# Altium footprint library 1_to_5_Pin.PcbLib: 174 footprints (part 3 of 11)
Each footprint in its own frame and in the unit in brackets; x right, y up, seen from the top. Pads: shape width x height; smd on the part's side, far side on the other; paste and mask are expansions set on the pad; w line width, h text height; cw(c..) or ccw(c..) is an arc to the next point about the centre after c.
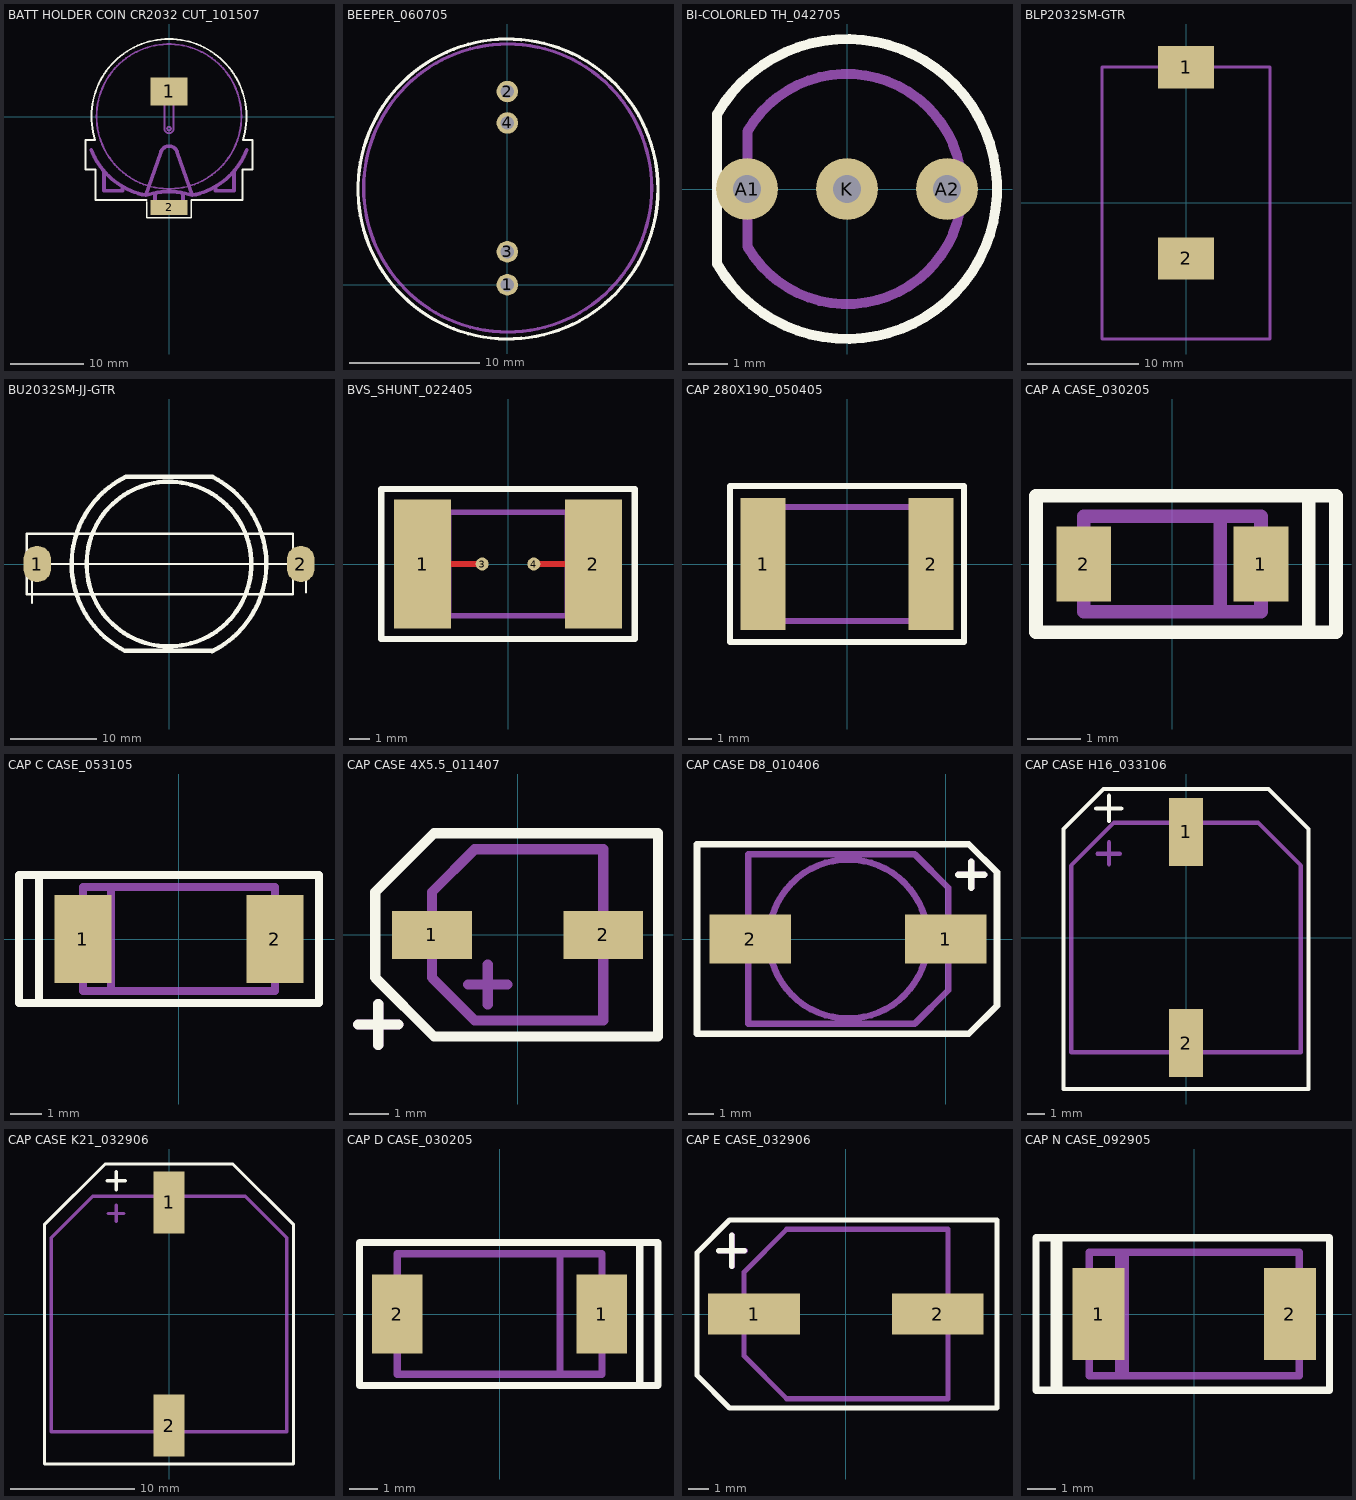
[diagram p2: the footprints below, top view; thin cyan lines are the x and y axes]

## BATT HOLDER COIN CR2032 CUT_101507 [mil] "SMT"
height 130
pads (2):
  rect 200x150 smd: 1(0,135)
  rect 200x80 smd: 2(0,-490)
Top Overlay:
  lines w10: -120,-460 -120,-545 0,-545 120,-545 120,-460 120,-450 395,-450 395,-285 450,-285 450,-126.17 397.91,-126.17 ccw(c0,0) 0,417.43 ccw(c0,0) -397.91,-126.17 -450,-126.17 -450,-285 -395,-285 -395,-450 -120,-450
Assembly Outline:
  circle w10: c-0.03,0 r390
  circle w10: c0,-65 r10
  lines w10: 75,110 75,195 ; 75,195 0,195 -50,195 -75,170 -75,150 -75,75 -45,75 -45,110 -25,110 -25,-65 ccw(c0,-65) 0,-90 ccw(c0,-65) 25,-65 25,110 45,110 45,75 75,75 75,195
  lines w20: -418.79,-179.54 ccw(c-48.32,-34.27) -125.06,-424.73 ; -350,-300 -350,-400 -250,-400 -250,-380 ; -75.03,-415 -75.03,-490 74.97,-490 74.97,-415 ; 250,-380 250,-400 350,-400 350,-300 ; 418.79,-179.54 cw(c48.32,-34.27) 125.06,-424.73 ; -125.06,-424.73 cw(c2,-801.07) 0,-403.87 cw(c-2,-801.07) 125.06,-424.73 ; -125.06,-424.73 -45.04,-195.84 cw(c0.06,-205.47) 44.97,-195 125.06,-424.73
Assembly Designator:
  text ".Designator" at -45,-140 h40
Assembly Comment:
  text ".Comment" at -180,230 h40

## BEEPER_060705 [mil] "TH"
height 200
pads (4):
  round 65 hole 40: 1(0,0) 2(0,585) 3(0,100) 4(0,490)
Top Overlay:
  circle w10: c2,290 r454.09
Assembly Outline:
  circle w10: c1,293 r436
Assembly Designator:
  text ".Designator" at -50,280 h40
Assembly Comment:
  text ".Comment" at -155,210 h40

## BI-COLORLED TH_042705 [mil] "TH"
height 450
pads (3):
  round 62 hole 28: A1(-100,0) A2(100,0) K(0,0)
Top Overlay:
  lines w10: -130,-75 -130,75 ; -129.9,-75 ccw(c0,0) -129.9,75
Assembly Outline:
  lines w10: -99.69,-57.55 ccw(c0,0) -99.69,57.55 -99.69,-57.55
Assembly Designator:
  text ".Designator" at -45,45 h40
Assembly Comment:
  text ".Comment" at -95,-175 h40

## BLP2032SM-GTR [mm] "SMT"
pads (2):
  rect 5.08x3.81 smd: 1(0,12.225) 2(0,-5)
Assembly Outline:
  lines w0.254: -7.55,-12.25 -7.55,12.25 7.55,12.25 7.55,-12.25 -7.55,-12.25
Assembly Designator:
  text ".Designator" at 8.5,-7 h1.02
Assembly Comment:
  text ".Comment" at 8.5,-7 h1.02

## BU2032SM-JJ-GTR [mm] "SMT"
pads (2):
  oval 3.2x4.2 smd: 1(-15.2,0) 2(15.2,0)
Top Overlay:
  circle w0.5: c0,0 r9.5
  lines w0.254: -15.8,-4.5 -15.8,0 0,0 15.8,0 15.8,-3.3 ; 5.02,10.08 5.1,10 ; -16.4,-3.5 -16.4,3.5 0,3.5 14.3,3.5 14.3,-3.5 -16.4,-3.5
  lines w0.5: 4.939,-10.08 ccw(c0,0) 5.1,10 ; 5,-10 -5.1,-10 cw(c0,0) -4.939,10.08 5.02,10.08

## BVS_SHUNT_022405 [mil] "SMT"
height 200
pads (4):
  rect 110x250 smd: 1(-165,0) 2(165,0)
  round 25 smd: 3(-50,0) 4(50,0)
Top Layer:
  lines w12: -165,0 -50,0 ; 50,0 165,0
Top Overlay:
  lines w12: -245,140 -245,145 ; -245,145 245,145 245,-145 -245,-145 -245,145
Assembly Outline:
  lines w10: -200,-100 -200,100 200,100 200,-100 -200,-100
  lines w12: -115,-100 -115,100 ; 115,-100 115,100
Assembly Designator:
  text ".Designator" at -40,-25 h40
Assembly Comment:
  text ".Comment" at -185,-165 h40

## CAP 280X190_050405 [mil] "SMT"
height 115
pads (2):
  rect 75x220 smd: 1(-140,0) 2(140,0)
Top Overlay:
  lines w10: -195,-130 -195,-105 -195,130 0,130 195,130 195,105 195,-130 0,-130 -195,-130
Assembly Outline:
  lines w10: 0,95 -140,95 ; -140,95 140,95 140,-95 -140,-95 -140,95
Assembly Designator:
  text ".Designator" at -35,-15 h40
Assembly Comment:
  text ".Comment" at -85,-180 h40

## CAP A CASE_030205 [mil] "SMT"
height 70
pads (2):
  rect 40x55 smd: 1(65,0) 2(-65,0)
Top Overlay:
  lines w10: 100,-50 120,-50 120,50 100,50 ; 100,-50 -35,-50 -100,-50 -100,50 100,50 ; 100,-50 100,50
Assembly Outline:
  lines w10: -65,0 -65,35 ; 0,-35 -65,-35 ; 35,-35 35,35 ; -65,-35 -65,35 ; -65,-35 65,-35 65,35 -65,35
Assembly Designator:
  text ".Designator" at -20,-20 h40
Assembly Comment:
  text ".Comment" at -85,45 h40

## CAP C CASE_053105 [mm] "SMT"
height 2.54
pads (2):
  rect 1.8x2.8 smd: 1(-3.048,0) 2(3.048,0)
Top Overlay:
  lines w0.254: -4.445,-2.032 4.445,-2.032 4.445,2.032 0.762,2.032 -4.445,2.032 ; -4.445,-2.032 -4.445,2.032 ; -4.445,-2.032 -5.08,-2.032 -5.08,2.032 -4.445,2.032
Assembly Outline:
  lines w0.254: -2.159,-1.651 -2.159,1.651 ; 0,1.651 3.048,1.651 ; 3.048,0 3.048,-1.651 ; 3.048,-1.651 3.048,1.651 ; 3.048,-1.651 -3.048,-1.651 -3.048,1.651 3.048,1.651
Assembly Designator:
  text ".Designator" at -1.143,-0.381 h1.02
Assembly Comment:
  text ".Comment" at -3.429,-3.175 h1.02

## CAP CASE 4X5.5_011407 [mm] "SMT"
height 5.5
pads (2):
  rect 2x1.2 smd: 1(-2.15,0) 2(2.15,0)
Top Overlay:
  lines w0.254: -4.008,-2.25 -2.992,-2.25 ; -3.5,-2.758 -3.5,-1.742 ; -3.575,-1.075 -2.1,-2.55 1.45,-2.55 3.525,-2.55 3.525,-0.675 3.525,0 3.525,0.675 3.525,2.55 1.45,2.55 -2.1,2.55 -3.575,1.075 -3.575,0 -3.575,-1.075
Assembly Outline:
  lines w0.254: -1.25,-1.25 -0.25,-1.25 ; -0.75,-1.75 -0.75,-0.75 ; 0,-2.15 2.15,-2.15 ; 2.15,1.35 2.15,2.15 ; -4.008,-2.25 -2.992,-2.25 ; -4.008,-2.25 -2.992,-2.25 ; -4.008,-2.25 -2.992,-2.25 ; -3.5,-2.758 -3.5,-1.742 ; -3.5,-2.758 -3.5,-1.742 ; -3.5,-2.758 -3.5,-1.742 ; 2.15,-2.15 2.15,2.15 ; 2.15,-2.15 -1.075,-2.15 -2.15,-1.075 -2.15,1.075 -1.075,2.15 2.15,2.15
Assembly Designator:
  text ".Designator" at -0.5,-0.5 h1.02
Assembly Comment:
  text ".Comment" at -4,-4 h1.02

## CAP CASE D8_010406 [mil] "SMT"
height 300
pads (2):
  rect 125x75 smd: 1(0,0) 2(-300,0)
Top Overlay:
  lines w10: 19.05,98.42 59.05,98.42 ; 39.05,78.42 39.05,118.42 ; -381.89,-145.67 -149.61,-145.67 35.43,-145.67 78.74,-102.36 78.74,0 78.74,102.36 35.43,145.67 -149.61,145.67 -381.89,145.67 -381.89,0 -381.89,-145.67
Assembly Outline:
  circle w10: c-149.61,0 r122.05
  lines w10: -303.15,0 -303.15,129.92 ; -149.61,-129.92 -303.15,-129.92 ; -303.15,-129.92 -303.15,129.92 ; -303.15,-129.92 -78.74,-129.92 -47.24,-129.92 3.94,-78.74 3.94,78.74 -47.24,129.92 -78.74,129.92 -303.15,129.92 ; 19.05,98.42 59.05,98.42 ; 19.05,98.42 59.05,98.42 ; 19.05,98.42 59.05,98.42 ; 39.05,78.42 39.05,118.42 ; 39.05,78.42 39.05,118.42 ; 39.05,78.42 39.05,118.42
Assembly Designator:
  text ".Designator" at -187.01,-19.68 h40
Assembly Comment:
  text ".Comment" at -344.49,-196.85 h40

## CAP CASE H16_033106 [mm] "SMT"
height 16
pads (2):
  rect 2x4 smd: 1(0,6.2) 2(0,-6.2)
Top Overlay:
  lines w0.254: -5.275,7.575 -3.8,7.575 ; -4.525,6.85 -4.525,8.325 ; -7.2,-8.9 -7.2,0 -7.2,6.375 -4.85,8.725 0,8.725 4.85,8.725 7.2,6.375 7.2,0 7.2,-8.9 -7.2,-8.9
Assembly Outline:
  lines w0.254: -5.2,4.925 -3.9,4.925 ; -4.525,4.3 -4.525,5.6 ; -0.45,-6.75 -0.45,-7.35 0,-7.35 0.45,-7.35 0.45,-6.75 ; -0.45,6.75 -0.45,7.35 0,7.35 0.45,7.35 0.45,6.75 ; 0,-6.75 -6.75,-6.75 ; -6.75,-6.75 6.75,-6.75 6.75,2.45 6.75,4.225 4.225,6.75 -4.225,6.75 -6.75,4.225 -6.75,2.45 -6.75,-6.75
Assembly Designator:
  text ".Designator" at -1.7,-0.15 h1.02
Assembly Comment:
  text ".Comment" at -2.525,-2.175 h1.02

## CAP CASE K21_032906 [mm] "SMT"
height 21
pads (2):
  rect 2.5x5 smd: 1(0,9) 2(0,-9)
Top Overlay:
  lines w0.254: -5,10.75 -3.525,10.75 ; -4.25,10.025 -4.25,11.5 ; -10.05,-12.1 -10.05,0 -10.05,7.2 -5.15,12.1 0,12.1 5.15,12.1 10.05,7.2 10.05,0 10.05,-12.1 0,-12.1 -10.05,-12.1
Assembly Outline:
  lines w0.254: -4.925,8.1 -3.625,8.1 ; -4.25,7.475 -4.25,8.775 ; -0.6,-9.5 -0.6,-10.5 0.6,-10.5 ; -0.6,9.5 -0.6,10.5 0.6,10.5 ; 0,-10.5 0.6,-10.5 ; 0,10.5 0.6,10.5 ; 0.6,-9.5 0.6,-10.5 ; 0.6,9.5 0.6,10.5 ; -9.5,-9.5 9.5,-9.5 9.5,0 9.5,6.15 6.15,9.5 -6.15,9.5 -9.5,6.15 -9.5,4.45 -9.5,-9.5
Assembly Designator:
  text ".Designator" at -1.1,-0.275 h1.02
Assembly Comment:
  text ".Comment" at -4,-1.95 h1.02

## CAP D CASE_030205 [mm] "SMT"
height 3.048
pads (2):
  rect 1.8x2.8 smd: 1(3.65,0) 2(-3.65,0)
Top Overlay:
  lines w0.254: 5,-2.55 5,2.55 ; 5,-2.55 -5,-2.55 -5,0 -5,2.55 5,2.55 ; 5,-2.55 5.65,-2.55 5.65,2.55 5,2.55
Assembly Outline:
  lines w0.254: 0,-2.15 -3.65,-2.15 ; 2.15,2.15 2.15,-2.15 3.65,-2.15 ; 3.65,0 3.65,2.15 ; -3.65,-2.15 3.65,-2.15 ; -3.65,-2.15 -3.65,2.15 3.65,2.15 ; 3.65,-2.15 3.65,2.15
Assembly Designator:
  text ".Designator" at -1.651,-0.381 h1.02
Assembly Comment:
  text ".Comment" at -3.937,2.413 h1.02

## CAP E CASE_032906 [mm] "SMT"
height 6.2
pads (2):
  rect 4.5x2 smd: 1(-4.5,0) 2(4.5,0)
Top Overlay:
  lines w0.254: -6.235,3.1 -5.6,3.1 -4.965,3.1 ; -5.6,2.338 -5.6,3.862 ; -7.3,-3 -5.7,-4.6 7.4,-4.6 7.4,4.6 1.5,4.6 -5.7,4.6 -7.3,3 -7.3,0 -7.3,-3
Assembly Outline:
  lines w0.254: -6.2,3.1 -5.565,3.1 -4.93,3.1 ; -5.565,2.338 -5.565,3.862 ; 0,-4.15 5,-4.15 ; 5,0 5,4.15 ; 5,-4.15 5,4.15 ; 5,-4.15 -2.9,-4.15 -5,-2.05 -5,2.05 -2.9,4.15 5,4.15
Assembly Designator:
  text ".Designator" at -0.901,-0.481 h1.02
Assembly Comment:
  text ".Comment" at -4.75,-5.975 h1.02

## CAP N CASE_092905 [mm] "SMT"
height 2.8
pads (2):
  rect 1.8x3.2 smd: 1(-3.325,0) 2(3.325,0)
Top Overlay:
  lines w0.254: -4.875,2.65 -4.875,-2.65 -4.7,-2.65 ; -4.7,-2.65 -0.425,-2.65 4.7,-2.65 4.7,0.775 4.7,2.65 0.425,2.65 -4.7,2.65 ; -4.7,-2.65 -4.7,-0.775 -4.7,2.65 ; -4.7,-2.65 -5.5,-2.65 -5.5,2.65 -4.7,2.65
Assembly Outline:
  lines w0.254: -3.65,0 -3.65,2.15 ; -2.275,2.15 -2.4,2.15 -2.4,-2.15 -2.625,-2.15 -2.625,2.15 -3.65,2.15 ; -3.65,2.15 3.65,2.15 3.65,-2.15 -3.65,-2.15 -3.65,2.15
Assembly Designator:
  text ".Designator" at -1.125,-0.4 h1.02
Assembly Comment:
  text ".Comment" at -3.2,-3.9 h1.02